# Altium integrated library Miscellaneous Fuse.IntLib: 1 symbol
Pins are listed as number, name and electrical type; pins without a type are passive.

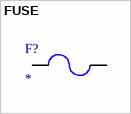
[diagram p0: symbol FUSE]

## FUSE
designator F?
footprint FUSE-1210
footprint FUSE-1812
footprint FUSE-RAD0.2
footprint FUSE-RAD
pins: 1, 2